# EAGLE library part 74*05 (library 74ttl-din)
Hex INVERTER, open collector
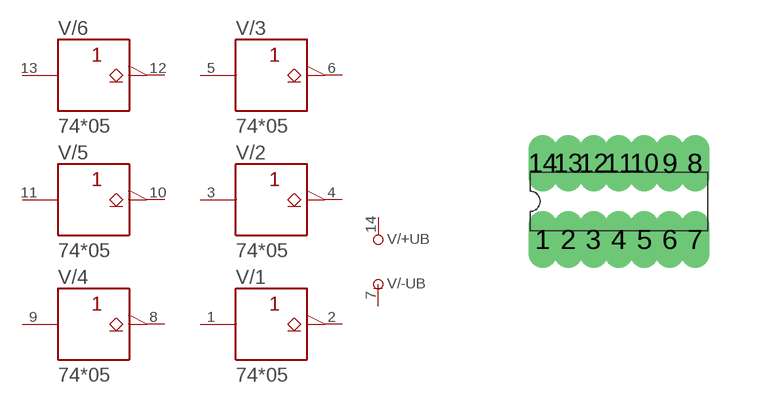
[diagram p6: symbol with the pads of DIL14; footprint DIL14]

Designator prefix V; gates /+UB=+UB /-UB=-UB /1=05 /2=05 /3=05 /4=05 /5=05 /6=05

## 7405N  [DIL14]
1  /1:A  in
2  /1:Y  oc
3  /2:A  in
4  /2:Y  oc
5  /3:A  in
6  /3:Y  oc
7  /-UB:-UB  pwr
8  /4:Y  oc
9  /4:A  in
10  /5:Y  oc
11  /5:A  in
12  /6:Y  oc
13  /6:A  in
14  /+UB:+UB  pwr

## Footprint DIL14 (pad centres in mm)
Dual In Line Package
drill 0.203 long: 1 -1.905,-0.953; 2 -1.27,-0.953; 3 -0.635,-0.953; 4 0,-0.953; 5 0.635,-0.953; 6 1.27,-0.953; 7 1.905,-0.953; 8 1.905,0.953; 9 1.27,0.953; 10 0.635,0.953; 11 0,0.953; 12 -0.635,0.953; 13 -1.27,0.953; 14 -1.905,0.953